# Altium footprint library BTS7960.PcbLib: 1 footprints
Each footprint in its own frame and in the unit in brackets; x right, y up, seen from the top. Pads: shape width x height; smd on the part's side, far side on the other; paste and mask are expansions set on the pad; w line width, h text height; cw(c..) or ccw(c..) is an arc to the next point about the centre after c.
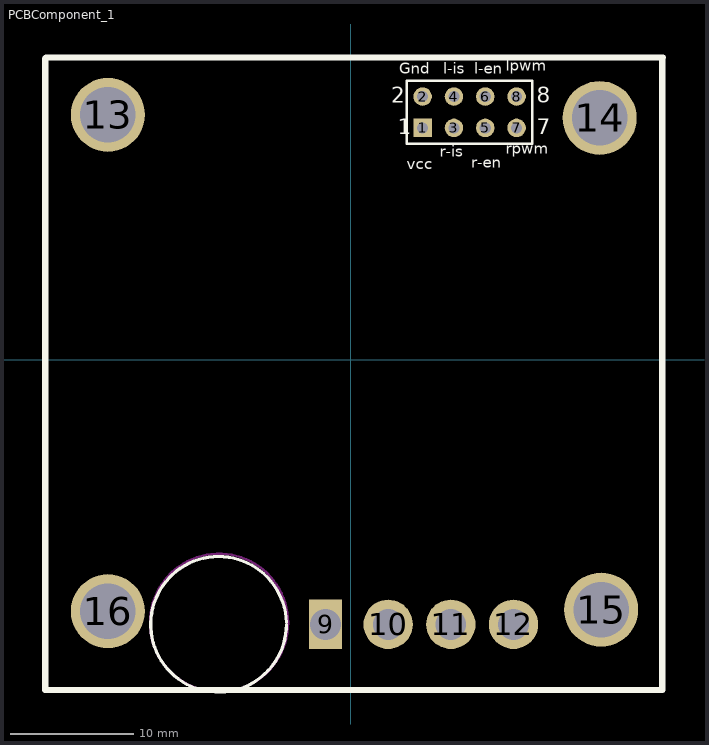
[diagram p0: the footprint, top view; thin cyan lines are the x and y axes]

## PCBComponent_1 [mm]
pads (16):
  rect 1.5x1.5 hole 0.9: 1(5.842,18.796)
  round 1.5 hole 0.9: 2(5.842,21.336) 3(8.382,18.796) 4(8.382,21.336) 5(10.922,18.796) 6(10.922,21.336) 7(13.462,18.796) 8(13.462,21.336)
  rect 2.7x4 hole 2.5: 9(-2.032,-21.463)
  round 4 hole 2.5: 10(3.048,-21.463) 11(8.128,-21.463) 12(13.208,-21.463)
  round 6 hole 4.5: 13(-19.68,19.852) 14(20.189,19.598) 15(20.316,-20.271) 16(-19.68,-20.398)
Top Overlay:
  lines w0.2: 4.572,17.526 14.732,17.526 14.732,22.606 4.572,22.606 4.572,17.526
  lines w0.254: -5.209,-21.31 ccw(c-10.707,-21.463) -5.207,-21.463
  lines w0.5: -24.765,24.428 -24.765,-26.797 25.273,-26.797 25.273,24.429 ; -24.683,24.511 25.317,24.511
  text "2" at 3.302,20.828 h1.27
  text "1" at 3.81,18.288 h1.27
  text "7" at 15.113,18.288 h1.27
  text "8" at 15.113,20.828 h1.27
  text "lpwm" at 12.573,23.114 h1.52
  text "l-en" at 10.033,22.86 h1.52
  text "l-is" at 7.493,22.86 h1.52
  text "rpwm" at 12.573,16.383 h1.52
  text "r-en" at 9.779,15.24 h1.52
  text "r-is" at 7.239,16.129 h1.52
  text "Gnd" at 3.937,22.86 h1.52
  text "vcc" at 4.572,15.113 h1.52
Keep-Out Layer:
  circle w0.2: c-10.668,-21.336 r5.599
3D body "BTS7960 H-Bridge Module.step": height 22.9, standoff -19.1, extent -25.75,-26.532 25.75,23.368